# Altium footprint library Inductances.PcbLib: 15 footprints
Each footprint in its own frame and in the unit in brackets; x right, y up, seen from the top. Pads: shape width x height; smd on the part's side, far side on the other; paste and mask are expansions set on the pad; w line width, h text height; cw(c..) or ccw(c..) is an arc to the next point about the centre after c.
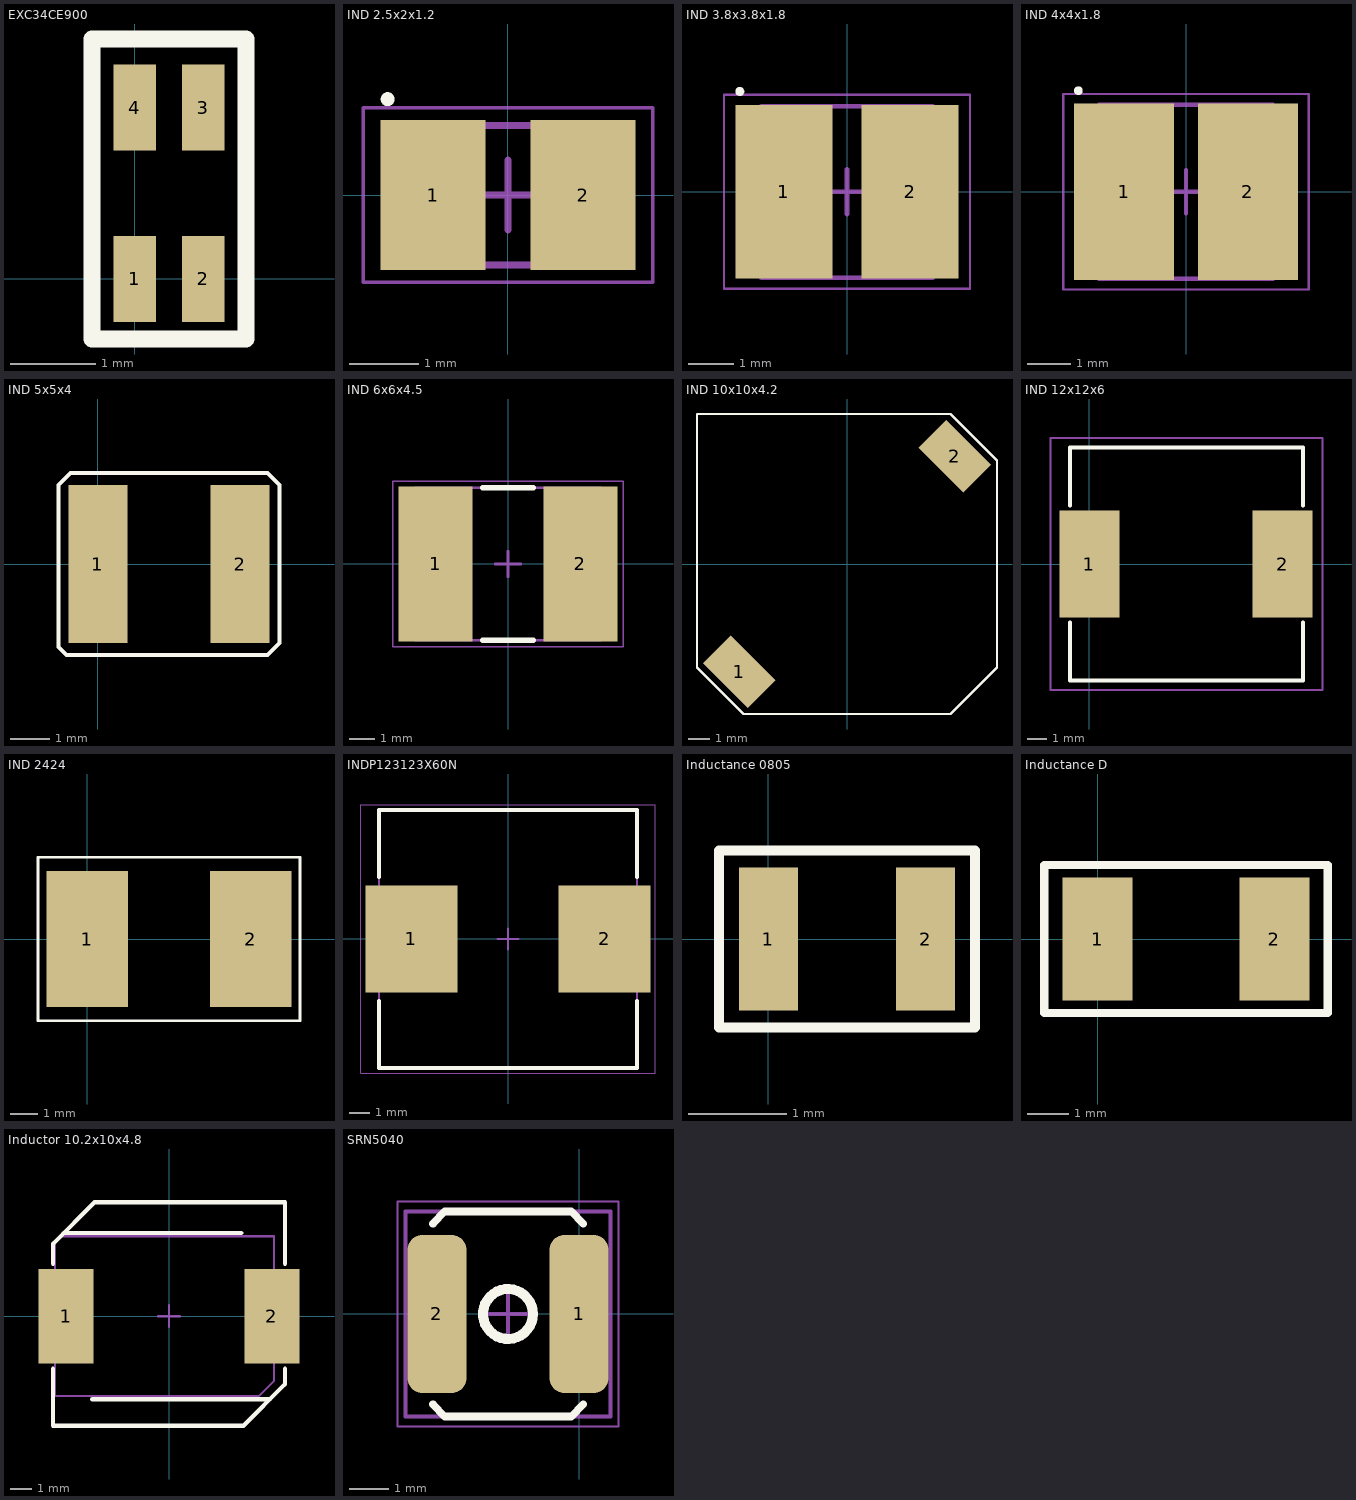
[diagram p0: the footprints below, top view; thin cyan lines are the x and y axes]

## EXC34CE900 [mm]
pads (4):
  rect 0.5x1 smd: 1(0,0) 2(0.8,0) 3(0.8,2) 4(0,2)
Top Overlay:
  lines w0.2: -0.5,-0.7 -0.5,2.8 1.3,2.8 1.3,-0.7 -0.5,-0.7

## IND 2.5x2x1.2 [mm] "Molded Diode, 2-Leads, Body 2,50x2,00mm, IPC Medium Density"
height 1.2
pads (2):
  rect 1.5x2.15 smd: 1(-1.075,0) 2(1.075,0)
Top Overlay:
  circle w0.1: c-1.725,1.375 r0.05
Mechanical 13:
  rectangle: -1.25,-1 -0.914,1
  lines w0.1: -1.25,-1 -1.25,1 1.25,1 1.25,-1 -1.25,-1
Mechanical 15:
  lines w0.05: -2.075,-1.25 -2.075,1.25 2.075,1.25 2.075,-1.25 -2.075,-1.25
  lines w0.1: -0.5,0 0.5,0 ; 0,-0.5 0,0.5
3D body: height 1.2, standoff 0, extent -1.25,-1 1.25,1

## IND 3.8x3.8x1.8 [mm] "Molded Diode, 2-Leads, Body 3,80x3,80mm, IPC Medium Density"
height 1.8
pads (2):
  rect 2.15x3.85 smd: 1(-1.4,0) 2(1.4,0)
Top Overlay:
  circle w0.1: c-2.375,2.225 r0.05
Mechanical 13:
  rectangle: -1.9,-1.9 -1.389,1.9
  lines w0.1: -1.9,-1.9 -1.9,1.9 1.9,1.9 1.9,-1.9 -1.9,-1.9
Mechanical 15:
  lines w0.05: -2.725,-2.15 -2.725,2.15 2.725,2.15 2.725,-2.15 -2.725,-2.15
  lines w0.1: -0.5,0 0.5,0 ; 0,-0.5 0,0.5
3D body: height 1.8, standoff 0, extent -1.9,-1.9 1.9,1.9

## IND 4x4x1.8 [mm] "Molded Diode, 2-Leads, Body 4,00x4,00mm, IPC Medium Density"
height 1.8
pads (2):
  rect 2.3x4.05 smd: 1(-1.425,0) 2(1.425,0)
Top Overlay:
  circle w0.1: c-2.475,2.325 r0.05
Mechanical 13:
  rectangle: -2,-2 -1.462,2
  lines w0.1: -2,-2 2,-2 2,2 -2,2 -2,-2
Mechanical 15:
  lines w0.05: -2.825,-2.25 2.825,-2.25 2.825,2.25 -2.825,2.25 -2.825,-2.25
  lines w0.1: -0.5,0 0.5,0 ; 0,-0.5 0,0.5
3D body "User Library-cdrh4d18c.step": height 2, standoff 0, extent -2.515,-2.515 2.515,2.515

## IND 5x5x4 [mm]
height 4
pads (2):
  rect 1.5x4 smd: 1(0,0) 2(3.6,0)
Top Overlay:
  lines w0.1: -1,-2.1 -0.8,-2.3 4.3,-2.3 4.6,-2 4.6,2 4.3,2.3 -0.7,2.3 -1,2 -1,-2.1
3D body "User Library-SRP-5030 Inductor.step": height 2.65, standoff -0.15, extent -1.2,-2.875 4.8,2.825

## IND 6x6x4.5 [mm] "Precision Wire Wound Inductor, 2-Leads, Body 7,30x6,00mm, IPC Medium Density"
height 4.5
pads (2):
  rect 2.9x6.1 smd: 1(-2.85,0) 2(2.85,0)
Top Overlay:
  lines w0.2: -1,-3 1,-3 ; -1,3 1,3
Mechanical 13:
  lines w0.1: -3.65,-3 3.65,-3 3.65,3 -3.65,3 -3.65,-3
Mechanical 15:
  lines w0.05: -4.525,-3.25 4.525,-3.25 4.525,3.25 -4.525,3.25 -4.525,-3.25
  lines w0.1: -0.5,0 0.5,0 ; 0,-0.5 0,0.5
3D body "User Library-IND-SRR0604_6x6x5.step": height 4.8, standoff 0, extent -3.375,-3.275 3.125,3.225

## IND 10x10x4.2 [mm]
height 4.2
pads (2):
  rect 3x1.85 smd rot 135: 1(-5.1,-5.1) 2(5.1,5.1)
Top Overlay:
  lines w0.1: -7.1,-4.9 -7.1,7.1 4.9,7.1 7.1,4.9 7.1,-4.9 4.9,-7.1 -4.9,-7.1 -7.1,-4.9
3D body "User Library-B82464G4.step": height 4.81, standoff 0, extent -5.2,-5.2 5.2,5.2

## IND 12x12x6 [mm]
height 6
pads (2):
  rect 3.1x5.5 smd: 1(0,0) 2(9.95,0)
Top Overlay:
  lines w0.2: -1,-3 -1,-6 11,-6 11,-3 ; -1,3 -1,6 11,6 11,3
Mechanical 15:
  lines w0.1: -2,-6.5 12,-6.5 12,6.5 -2,6.5 -2,-6.5
3D body "Coilcraft-MSS1583.step": height 9.05, standoff 0, extent -2.55,-7.5 12.55,7.6

## IND 2424 [mm]
pads (2):
  rect 3x5 smd: 1(0,0) 2(6,0)
Top Overlay:
  lines w0.1: -1.8,-3 7.8,-3 7.8,3 -1.8,3 -1.8,-3

## INDP123123X60N [mm] "Precision Wire Wound Inductor, 2-Leads, Body 12,30x12,30mm, IPC Medium Density"
height 6
pads (2):
  rect 4.4x5.1 smd: 1(-4.6,0) 2(4.6,0)
Top Overlay:
  lines w0.2: -6.15,-2.95 -6.15,-6.15 6.15,-6.15 6.15,-2.95 ; -6.15,2.95 -6.15,6.15 6.15,6.15 6.15,2.95
Mechanical 13:
  lines w0.1: -6.15,-6.15 6.15,-6.15 6.15,6.15 -6.15,6.15 -6.15,-6.15
Mechanical 15:
  lines w0.05: -7.025,-6.4 7.025,-6.4 7.025,6.4 -7.025,6.4 -7.025,-6.4
  lines w0.1: -0.5,0 0.5,0 ; 0,-0.5 0,0.5
3D body: height 6, standoff 0, extent -6.15,-6.15 6.15,6.15

## Inductance 0805 [mm] "http://www.yuden.co.jp/productdata/catalog/en/wound07_e.pdf"
pads (2):
  rect 0.6x1.45 smd: 1(0,0) 2(1.6,0)
Top Overlay:
  lines w0.1: -0.5,-0.9 2.1,-0.9 2.1,0.9 -0.5,0.9 -0.5,-0.9

## Inductance D [mm]
pads (2):
  rect 1.7x3 smd: 1(0,0) 2(4.3,0)
Top Overlay:
  lines w0.2: -1.3,-1.8 -1.3,1.8 5.6,1.8 5.6,-1.8 -1.3,-1.8

## Inductor 10.2x10x4.8 [mm] "Chip Inductor, 2-Leads, Body 7.8x7.0mm, IPC Medium Density"
height 4.8
pads (2):
  rect 2.5x4.3 smd: 1(-4.7,0) 2(4.7,0)
Top Overlay:
  lines w0.2: -5.3,-2.4 -5.3,-5 3.4,-5 5.3,-3.1 5.3,-2.4 ; -5.3,2.4 -5.3,3.3 -3.4,5.2 5.3,5.2 5.3,2.4 ; -4.8,3.8 3.3,3.8 ; -3.5,-3.8 4.6,-3.8
Mechanical 13:
  lines w0.1: -5.2,-3.65 4.1,-3.65 4.8,-2.95 4.8,3.65 -4.975,3.65 -5.2,3.425 -5.2,-3.65
Mechanical 15:
  lines w0.1: -0.5,0 0.5,0 ; 0,-0.5 0,0.5
3D body "COIL.stp": height 4.8, standoff 0, extent -5.275,-4.9 4.725,5.1

## PCBComponent_1 - duplicate [mm]

## SRN5040 [mm]
height 5
pads (2):
  rrect50% 1.5x4 smd: 1(0,0) 2(-3.6,0)
Top Layer:
  lines w0.3: 0,-0.635 0,0 ; 0.474,1.004 0.1,0.63 0,0.53 0,0 ; 0,0 0,0
Top Overlay:
  circle w0.254: c-1.8,0 r0.632
  lines w0.2: -3.705,-2.286 -3.4,-2.6 -1.8,-2.6 -0.2,-2.6 0.105,-2.286 ; -3.705,2.286 -3.4,2.6 -1.8,2.6 -0.2,2.6 0.105,2.286
Mechanical 13:
  lines w0.1: -4.4,-2.6 -4.4,2.6 0.8,2.6 0.8,-2.6 -4.4,-2.6
Mechanical 15:
  lines w0.05: -4.594,-2.85 -4.594,2.85 0.994,2.85 0.994,-2.85 -4.594,-2.85
  lines w0.1: -2.3,0 -1.3,0 ; -1.8,-0.5 -1.8,0.5
3D body: height 0.6, standoff 0.1, extent -3.8,-2.6 0.2,2.6
3D body: height 4, standoff 3.5, extent -3.8,-2.6 0.2,2.6
3D body: height 4.1, standoff 0.2, extent -3.4,-1.597 -0.213,1.597